# Altium integrated library BC9VPC.IntLib: 1 symbol
Pins are listed as number, name and electrical type; pins without a type are passive.

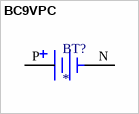
[diagram p0: symbol BC9VPC]

## BC9VPC
designator BT?
BATTERY HOLDER 9V PC PIN; MF: MPD; MP: BC9VPC; Check_prices: https://www.snapeda.com/parts/BC9VPC/MPD/view-part/4389071/?ref=eda; Package: None; Value: *; Price: None; Availability: Warning; SnapEDA_Link: https://www.snapeda.com/parts/BC9VPC/MPD/view-part/4389071/?ref=snap; Purchase-URL: https://pricing.snapeda.com/search/part/BC9VPC/?ref=eda
footprint BAT_BC9VPC
pins: N NEG, P POS